# Altium footprint library FootPrintLib_4.PcbLib: 700 footprints (part 33 of 44)
Each footprint in its own frame and in the unit in brackets; x right, y up, seen from the top. Pads: shape width x height; smd on the part's side, far side on the other; paste and mask are expansions set on the pad; w line width, h text height; cw(c..) or ccw(c..) is an arc to the next point about the centre after c.
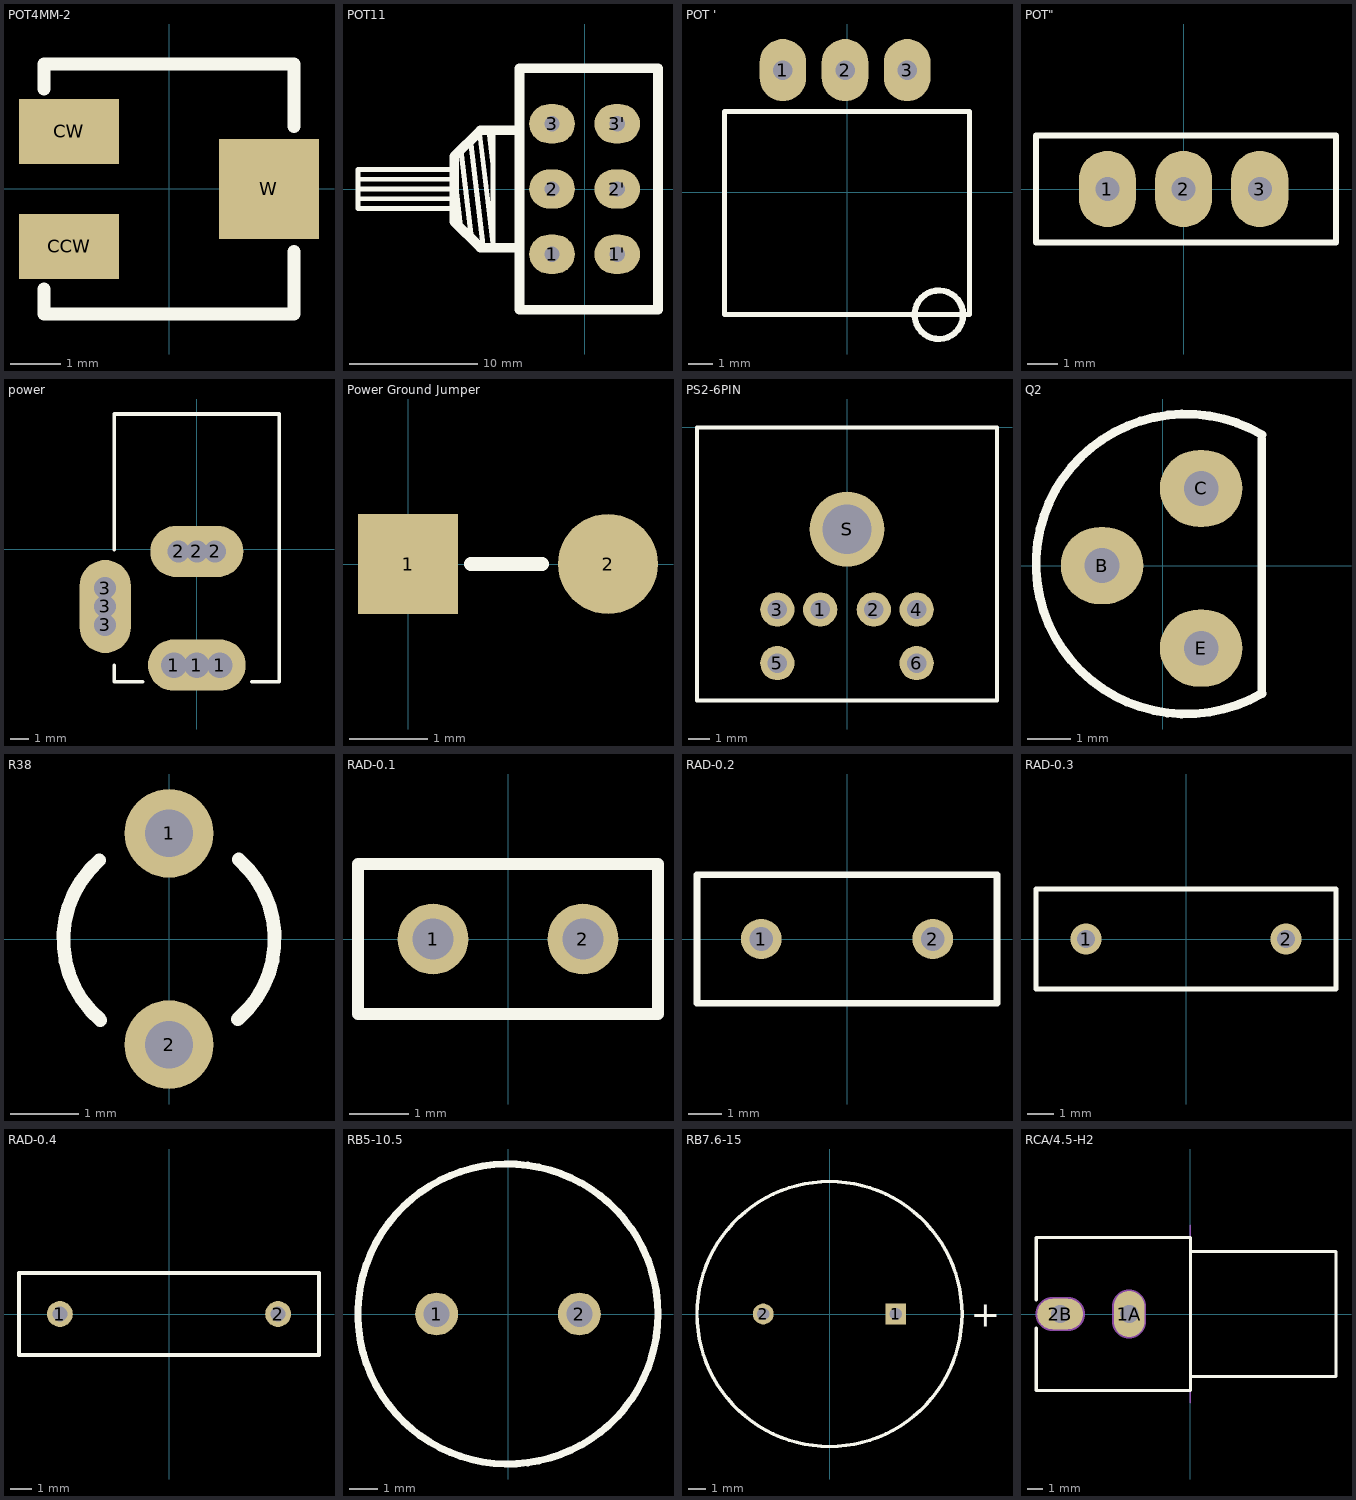
[diagram p32: the footprints below, top view; thin cyan lines are the x and y axes]

## POT4MM-2 [mm] "Square Trimming Potentiometer"
pads (3):
  rect 2x1.3 smd: CCW(-2,-1.15) CW(-2,1.15)
  rect 2x2 smd: W(2,0)
Top Overlay:
  lines w0.254: -2.5,-2 -2.5,-2.5 2.5,-2.5 2.5,-1.25 ; -2.5,2 -2.5,2.5 2.5,2.5 2.5,1.25

## POT11 [mil] "POT11"
pads (6):
  oval 140x120 hole 47.24: 1(-100,-200) 1'(100,-200) 2(-100,0) 2'(100,0) 3(-100,200) 3'(100,200)
Top Overlay:
  lines w15: -695,-30 -400,-30 ; -695,0 -410,0 ; -695,30 -410,30 ; -403.94,84.53 -380,-115 ; -401.92,67.64 -409.56,60 -695,60 -695,-60 -400,-60 ; -379.06,118.79 -345,-165 ; -350.2,149.98 -310,-185 ; -323.15,179.62 -280,-180 ; -293.94,179.53 -281.4,75.01 ; -281.5,-167.47 -281.5,178.5
  lines w30: -200,-180 -320,-180 -400,-100 -400,100 -320,180 -200,180 ; -200,-370 225,-370 225,370 -200,370 -200,-370

## POT ' [mm]
pads (3):
  oval 1.905x2.54 hole 0.8: 1(-2.624,4.996) 2(-0.084,4.996) 3(2.456,4.996)
Top Overlay:
  circle w0.254: c3.75,-5.004 r0.992
  lines w0.203: -5.004,-5.004 4.996,-5.004 4.996,3.302 -5.004,3.302 -5.004,-5.004

## POT" [mm]
pads (3):
  oval 1.905x2.54 hole 0.8: 1(-2.54,0) 2(0,0) 3(2.54,0)
Top Overlay:
  lines w0.203: -4.92,-1.778 5.08,-1.778 5.08,1.778 -4.92,1.778 -4.92,-1.778

## power [mm]
pads (9):
  round 1.5 hole 1.4: 1(-1.24,-6.334) 1(1.26,-6.334)
  oval 5.334x2.794 hole 1.4: 1(0.01,-6.334)
  round 1.5 hole 1.2: 2(-0.99,-0.134) 2(1.01,-0.134) 3(-4.99,-4.134) 3(-4.99,-2.134)
  oval 5.08x2.794 hole 1.2: 2(0.01,-0.134)
  oval 2.794x5.08 hole 1.2: 3(-4.99,-3.134)
Top Overlay:
  lines w0.2: -4.49,-6.35 -4.49,-7.234 -2.946,-7.234 ; -4.49,-0.025 -4.49,7.366 4.51,7.366 4.51,-7.234 2.997,-7.234

## Power Ground Jumper [mm]
pads (2):
  rect 1.27x1.27 smd: 1(0,0)
  round 1.27 smd: 2(2.54,0)
Top Overlay:
  lines w0.178: 0.8,0 1.7,0

## PS2-6PIN [mm] "PS2 Socket, 6 Pin, Through Hole"
pads (7):
  round 1.6 hole 0.9: 1(-1.25,-8.5) 2(1.25,-8.5) 3(-3.25,-8.5) 4(3.25,-8.5) 5(-3.25,-11) 6(3.25,-11)
  round 3.5 hole 2.3: S(0,-4.75)
Top Overlay:
  lines w0.2: -7,-12.75 -7,0 7,0 7,-12.75 -7,-12.75

## Q2 [mil]
pads (3):
  oval 75x70 hole 31.5: B(-55,0) C(35,70) E(35,-75)
Top Overlay:
  lines w8: 90,-115 90,115 ; 90.11,-116.1 cw(c21.22,1.42) 90.42,118.76

## R38 [mm] "Crystal, Thru-Hole; 2 Leads; Body 3.1 x 8.2 mm (Dia.xH)"
height 8.2
pads (2):
  round 1.3 hole 0.7: 1(0,1.55) 2(0,-1.55)
Top Overlay:
  lines w0.2: -1.022,1.155 ccw(c0,-0.01) -1.006,-1.189 ; 1.006,-1.179 ccw(c0,0) 1.022,1.165

## RAD-0.1 [mm] "Radial Cap, 5'mm, Thru-Hole; 2 Leads; 0.1 in Pin Spacing"
pads (2):
  round 1.2 hole 0.7: 1(-1.27,0) 2(1.27,0)
Top Overlay:
  lines w0.2: -2.54,-1.27 2.54,-1.27 2.54,1.27 -2.54,1.27 -2.54,-1.27

## RAD-0.2 [mm] "Radial Cap, 9'mm, Thru-Hole; 2 Leads; 0.2 in Pin Spacing"
pads (2):
  round 1.2 hole 0.7: 1(-2.54,0) 2(2.54,0)
Top Overlay:
  lines w0.2: -4.445,-1.905 -4.445,1.905 4.445,1.905 4.445,-1.905 -4.445,-1.905

## RAD-0.3 [mm] "Radial Cap, 11.5'mm, Thru-Hole; 2 Leads; 0.3 in Pin Spacing"
height 6
pads (2):
  round 1.2 hole 0.7: 1(-3.81,0) 2(3.81,0)
Top Overlay:
  lines w0.2: -5.715,-1.905 -5.715,1.905 5.715,1.905 5.715,-1.905 -5.715,-1.905

## RAD-0.4 [mm] "Radial Cap, 14'm, Thru-Hole; 2 Leads; 0.4 in Pin Spacing"
pads (2):
  round 1.2 hole 0.7: 1(-5.08,0) 2(5.08,0)
Top Overlay:
  lines w0.2: -6.985,-1.905 -6.985,1.905 6.985,1.905 6.985,-1.905 -6.985,-1.905

## RB5-10.5 [mm] "Capacitor (Radial); 2 Leads"
pads (2):
  round 1.5 hole 0.9: 1(-2.5,0) 2(2.5,0)
Top Overlay:
  circle w0.25: c0,0 r5.25
Mechanical 1:
  circle w0.02: c0,0 r5.25

## RB7.6-15 [mm] "Polarized Capacitor (Radial); 2 Leads"
pads (2):
  rect 1.2x1.2 hole 0.7: 1(3.81,0)
  round 1.2 hole 0.7: 2(-3.81,0)
Top Overlay:
  circle w0.2: c0,0 r7.62
  text "+" at 8.132,-0.737 h1.5

## RCA/4.5-H2 [mm] "Two Conductor Jack (RCA), Right Angle, Thru-Hole, Body 10 x 10 x 13 mm (WxTxH)"
height 13
pads (2):
  oval 2x3 hole 1.2: 1A(-4,0)
  oval 3x2 hole 1.2: 2B(-8.496,0)
Top Overlay:
  lines w0.2: -10.075,5 -0.018,5 ; -10.057,-0.92 -10.057,-5 0,-5 0,5 ; -10.057,0.92 -10.057,5 ; 0,-4.065 9.5,-4.065 9.5,4.065 0,4.065
Mechanical 1:
  lines w0.1: 0,-5.8 0,5.8
  lines w1.2: -8.996,0 -7.996,0 ; -4,-0.5 -4,0.5
  text "PCB Edge" at -0.333,-4.618 h0.25
  text "Alert PCB fab to slot details" at -10.057,7.842 h0.3
  text "Slot 1.2x2.2mm, PTH" at -10.057,7.342 h0.3
  text "Assign keep-out area to slot" at -10.057,8.342 h0.3
  text "Mech 1 - Slot cut-out" at -10.057,6.842 h0.3
  text "Mech 2 - Clearance, move to internal plane if present" at -10.057,6.342 h0.3
Mechanical 2:
  lines w2.216: -8.996,0 -7.996,0 ; -4,-0.5 -4,0.5